# Altium schematic symbol library Term,Header,3x2 Pin,2.54mm,Thru.Schlib: 1 symbol
Pins are listed as number, name and electrical type; pins without a type are passive.

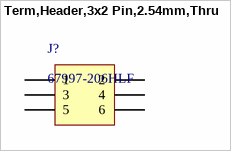
[diagram p0: symbol Term,Header,3x2 Pin,2.54mm,Thru]

## Term,Header,3x2 Pin,2.54mm,Thru
designator J?, comment 67997-206HLF
Connector Header Through Hole 6 position 0.100" (2.54mm)
pins: 1, 2, 3, 4, 5, 6